# Altium schematic symbol library 53048-0510.SchLib: 1 symbol
Pins are listed as number, name and electrical type; pins without a type are passive.

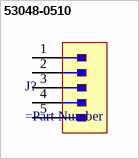
[diagram p0: symbol 53048-0510]

## 53048-0510
designator J?
=Description
pins: 1, 2, 3, 4, 5